# EAGLE library part PHOTON_SMD (library Spark)
Photon (without headers) - designed to be surface mounted with 7 extra exposed pads on the bottom of the board which include, 3 RGB LED outputs, /SETUP, EN (3.3V SMPS enable input), USB D+ and USB D-.
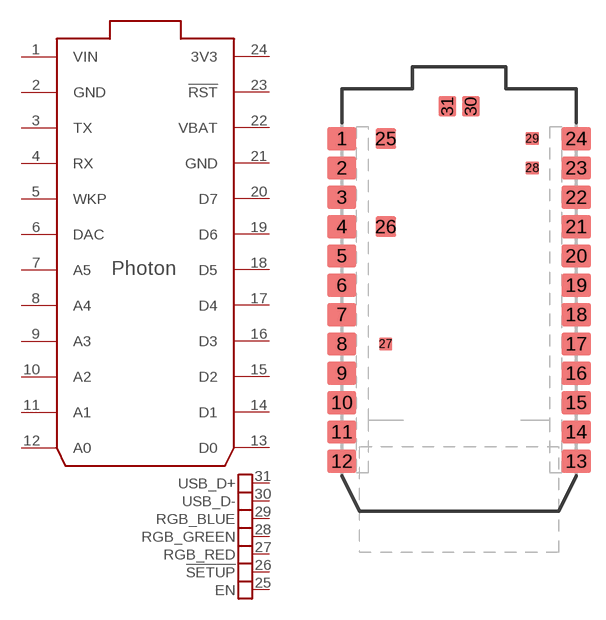
[diagram p20: symbol with the pads of PHOTON_SMD; footprint PHOTON_SMD]

Designator prefix -; gates G$1=PHOTON G$2=PHOTON_PADS

## PHOTON_SMD  [PHOTON_SMD]
1  G$1:VIN  pwr
2  G$1:GND  pwr
3  G$1:TX
4  G$1:RX
5  G$1:WKP
6  G$1:DAC
7  G$1:A5
8  G$1:A4
9  G$1:A3
10  G$1:A2
11  G$1:A1
12  G$1:A0
13  G$1:D0
14  G$1:D1
15  G$1:D2
16  G$1:D3
17  G$1:D4
18  G$1:D5
19  G$1:D6
20  G$1:D7
21  G$1:GND  pwr
22  G$1:VBAT  pwr
23  G$1:!RST
24  G$1:3V3  pwr
25  G$2:EN
26  G$2:!SETUP
27  G$2:RGB_RED
28  G$2:RGB_GREEN
29  G$2:RGB_BLUE
30  G$2:USB_D-
31  G$2:USB_D+

## Footprint PHOTON_SMD (pad centres in mm)
smd 2.54 x 2.032: 1 0,32.258; 2 0,29.718; 3 0,27.178; 4 0,24.638; 5 0,22.098; 6 0,19.558; 7 0,17.018; 8 0,14.478; 9 0,11.938; 10 0,9.398; 11 0,6.858; 12 0,4.318; 13 20.32,4.318; 14 20.32,6.858; 15 20.32,9.398; 16 20.32,11.938; 17 20.32,14.478; 18 20.32,17.018; 19 20.32,19.558; 20 20.32,22.098; 21 20.32,24.638; 22 20.32,27.178; 23 20.32,29.718; 24 20.32,32.258
smd 1.778 x 1.778: 25 3.81,32.258; 26 3.81,24.638
smd 1.143 x 1.143: 27 3.81,14.478; 28 16.51,29.718; 29 16.51,32.258
smd 1.524 x 1.778: 30 11.176,35.052; 31 9.144,35.052